# Altium footprint library LTC3200.PcbLib: 2 footprints
Each footprint in its own frame and in the unit in brackets; x right, y up, seen from the top. Pads: shape width x height; smd on the part's side, far side on the other; paste and mask are expansions set on the pad; w line width, h text height; cw(c..) or ccw(c..) is an arc to the next point about the centre after c.
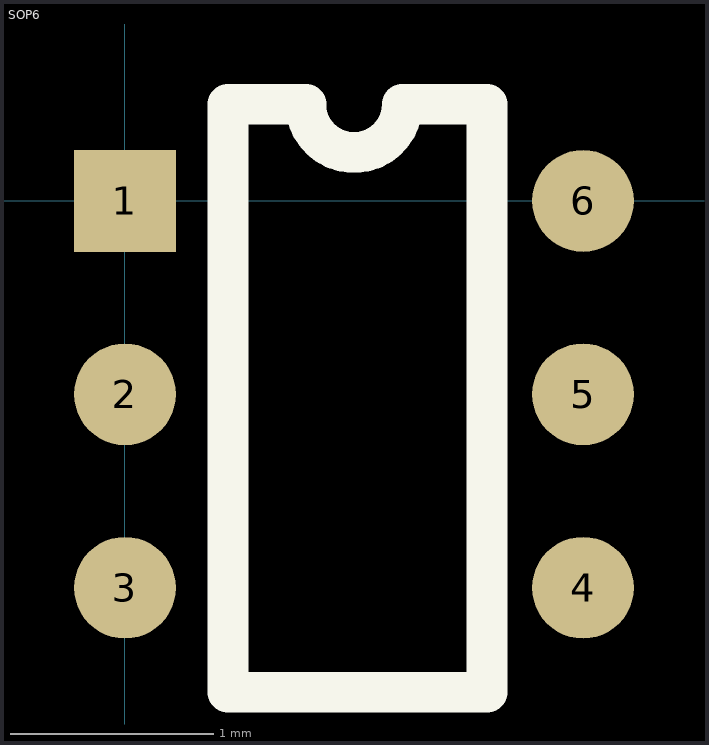
[diagram p0: the footprints below, top view; thin cyan lines are the x and y axes]

## PCBComponent_1 [mm]

## SOP6 [mm]
pads (6):
  rect 0.5x0.5 smd: 1(0,0)
  round 0.5 smd: 2(0,-0.95) 3(0,-1.9) 4(2.25,-1.9) 5(2.25,-0.95) 6(2.25,0)
Top Overlay:
  lines w0.2: 0.887,0.475 ccw(c1.125,0.475) 1.362,0.475 1.778,0.475 1.778,-2.413 0.506,-2.413 0.506,0.475 0.889,0.475